# Altium footprint library Linear Technology PMIC-Switching Reg LTC1174-LTC3901.PcbLib: 163 footprints (part 11 of 11)
Each footprint in its own frame and in the unit in brackets; x right, y up, seen from the top. Pads: shape width x height; smd on the part's side, far side on the other; paste and mask are expansions set on the pad; w line width, h text height; cw(c..) or ccw(c..) is an arc to the next point about the centre after c.
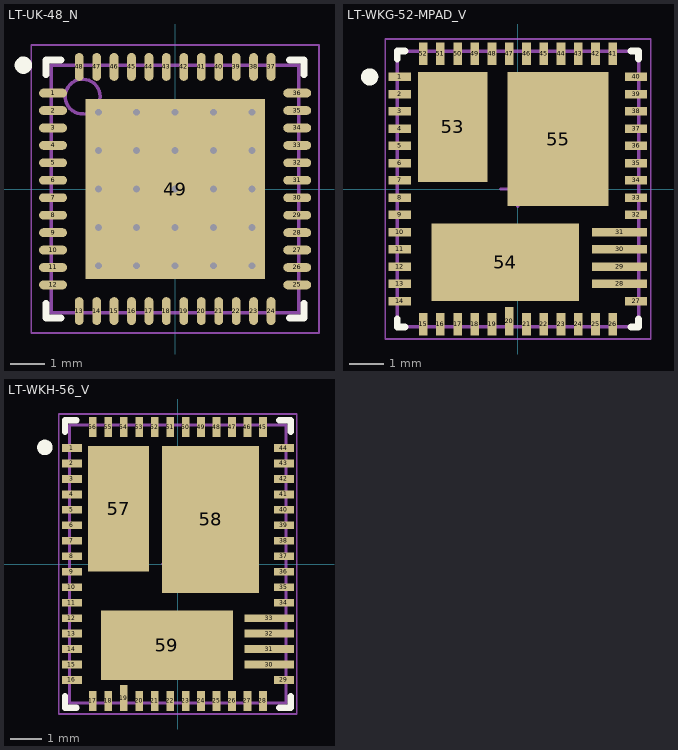
[diagram p10: the footprints below, top view; thin cyan lines are the x and y axes]

## LT-UK-48_N [mm] "QFN, 48-Leads, Body 7.1x7.1mm, Pitch 0.5mm, Thermal Pad 5.15x5.15mm, IPC Medium Density"
height 0.8
pads (49):
  oval 0.8x0.25 smd: 1(-3.5,2.75) 2(-3.5,2.25) 3(-3.5,1.75) 4(-3.5,1.25) 5(-3.5,0.75) 6(-3.5,0.25) 7(-3.5,-0.25) 8(-3.5,-0.75) 9(-3.5,-1.25) 10(-3.5,-1.75) 11(-3.5,-2.25) 12(-3.5,-2.75) 25(3.5,-2.75) 26(3.5,-2.25) 27(3.5,-1.75) 28(3.5,-1.25) 29(3.5,-0.75) 30(3.5,-0.25) 31(3.5,0.25) 32(3.5,0.75) 33(3.5,1.25) 34(3.5,1.75) 35(3.5,2.25) 36(3.5,2.75)
  oval 0.25x0.8 smd: 13(-2.75,-3.5) 14(-2.25,-3.5) 15(-1.75,-3.5) 16(-1.25,-3.5) 17(-0.75,-3.5) 18(-0.25,-3.5) 19(0.25,-3.5) 20(0.75,-3.5) 21(1.25,-3.5) 22(1.75,-3.5) 23(2.25,-3.5) 24(2.75,-3.5) 37(2.75,3.5) 38(2.25,3.5) 39(1.75,3.5) 40(1.25,3.5) 41(0.75,3.5) 42(0.25,3.5) 43(-0.25,3.5) 44(-0.75,3.5) 45(-1.25,3.5) 46(-1.75,3.5) 47(-2.25,3.5) 48(-2.75,3.5)
  rect 5.15x5.15 smd: 49(0,0)
via 2.2,-2.2 diameter 0.5 hole 0.2
via 1.1,-2.2 diameter 0.5 hole 0.2
via 0,-2.2 diameter 0.5 hole 0.2
via -1.1,-2.2 diameter 0.5 hole 0.2
via -2.2,-2.2 diameter 0.5 hole 0.2
via 2.2,-1.1 diameter 0.5 hole 0.2
via 1.1,-1.1 diameter 0.5 hole 0.2
via 0,-1.1 diameter 0.5 hole 0.2
via -1.1,-1.1 diameter 0.5 hole 0.2
via -2.2,-1.1 diameter 0.5 hole 0.2
via 2.2,0 diameter 0.5 hole 0.2
via 1.1,0 diameter 0.5 hole 0.2
via 0,0 diameter 0.5 hole 0.2
via -1.1,0 diameter 0.5 hole 0.2
via -2.2,0 diameter 0.5 hole 0.2
via 2.2,1.1 diameter 0.5 hole 0.2
via 1.1,1.1 diameter 0.5 hole 0.2
via 0,1.1 diameter 0.5 hole 0.2
via -1.1,1.1 diameter 0.5 hole 0.2
via -2.2,1.1 diameter 0.5 hole 0.2
via 2.2,2.2 diameter 0.5 hole 0.2
via 1.1,2.2 diameter 0.5 hole 0.2
via 0,2.2 diameter 0.5 hole 0.2
via -1.1,2.2 diameter 0.5 hole 0.2
via -2.2,2.2 diameter 0.5 hole 0.2
Top Overlay:
  circle w0.25: c-4.35,3.55 r0.125
  lines w0.2: -3.7,-3.275 -3.7,-3.7 -3.275,-3.7 ; -3.7,3.275 -3.7,3.7 -3.275,3.7 ; 3.275,-3.7 3.7,-3.7 3.7,-3.275 ; 3.275,3.7 3.7,3.7 3.7,3.275
Mechanical 13:
  circle w0.1: c-2.65,2.65 r0.5
  lines w0.1: -3.55,-3.55 3.55,-3.55 3.55,3.55 -3.55,3.55 -3.55,-3.55
Mechanical 15:
  lines w0.05: -4.125,-4.125 4.125,-4.125 4.125,4.125 -4.125,4.125 -4.125,-4.125
  lines w0.1: -0.5,0 0.5,0 ; 0,-0.5 0,0.5
3D body: height 0.8, standoff 0, extent -3.55,-3.55 3.55,3.55

## LT-WKG-52-MPAD_V [mm] "QFN, 52-Leads, Body 8x7mm, Pitch 0.5mm"
height 1
pads (55):
  rect 0.65x0.25 smd: 1(-3.425,3.25) 2(-3.425,2.75) 3(-3.425,2.25) 4(-3.425,1.75) 5(-3.425,1.25) 6(-3.425,0.75) 7(-3.425,0.25) 8(-3.425,-0.25) 9(-3.425,-0.75) 10(-3.425,-1.25) 11(-3.425,-1.75) 12(-3.425,-2.25) 13(-3.425,-2.75) 14(-3.425,-3.25) 27(3.425,-3.25) 32(3.425,-0.75) 33(3.425,-0.25) 34(3.425,0.25) 35(3.425,0.75) 36(3.425,1.25) 37(3.425,1.75) 38(3.425,2.25) 39(3.425,2.75) 40(3.425,3.25)
  rect 0.25x0.65 smd: 15(-2.75,-3.925) 16(-2.25,-3.925) 17(-1.75,-3.925) 18(-1.25,-3.925) 19(-0.75,-3.925) 21(0.25,-3.925) 22(0.75,-3.925) 23(1.25,-3.925) 24(1.75,-3.925) 25(2.25,-3.925) 26(2.75,-3.925) 41(2.75,3.925) 42(2.25,3.925) 43(1.75,3.925) 44(1.25,3.925) 45(0.75,3.925) 46(0.25,3.925) 47(-0.25,3.925) 48(-0.75,3.925) 49(-1.25,3.925) 50(-1.75,3.925) 51(-2.25,3.925) 52(-2.75,3.925)
  rect 0.25x0.83 smd: 20(-0.25,-3.835)
  rect 1.6x0.25 smd: 28(2.95,-2.75) 29(2.95,-2.25) 30(2.95,-1.75) 31(2.95,-1.25)
  rect 2.025x3.2 smd: 53(-1.887,1.8)
  rect 4.275x2.25 smd: 54(-0.363,-2.125)
  rect 2.925x3.9 smd: 55(1.163,1.45)
Top Overlay:
  circle w0.25: c-4.3,3.25 r0.125
  lines w0.2: -3.5,-3.775 -3.5,-4 -3.275,-4 ; -3.5,3.775 -3.5,4 -3.275,4 ; 3.275,-4 3.5,-4 3.5,-3.775 ; 3.275,4 3.5,4 3.5,3.775
Mechanical 13:
  lines w0.1: -3.5,-4 -3.5,4 3.5,4 3.5,-4 -3.5,-4
Mechanical 15:
  lines w0.05: -3.85,-4.35 -3.85,4.35 3.85,4.35 3.85,-4.35 -3.85,-4.35
  lines w0.1: -0.5,0 0.5,0 ; 0,-0.5 0,0.5
3D body: height 1, standoff 0, extent -3.5,-4 3.5,4

## LT-WKH-56_V [mm] "QFN, 56-Leads, Body 9x7mm, Pitch 0.5mm"
height 1
pads (59):
  rect 0.65x0.25 smd: 1(-3.425,3.75) 2(-3.425,3.25) 3(-3.425,2.75) 4(-3.425,2.25) 5(-3.425,1.75) 6(-3.425,1.25) 7(-3.425,0.75) 8(-3.425,0.25) 9(-3.425,-0.25) 10(-3.425,-0.75) 11(-3.425,-1.25) 12(-3.425,-1.75) 13(-3.425,-2.25) 14(-3.425,-2.75) 15(-3.425,-3.25) 16(-3.425,-3.75) 29(3.425,-3.75) 34(3.425,-1.25) 35(3.425,-0.75) 36(3.425,-0.25) 37(3.425,0.25) 38(3.425,0.75) 39(3.425,1.25) 40(3.425,1.75) 41(3.425,2.25) 42(3.425,2.75) 43(3.425,3.25) 44(3.425,3.75)
  rect 0.25x0.65 smd: 17(-2.75,-4.425) 18(-2.25,-4.425) 20(-1.25,-4.425) 21(-0.75,-4.425) 22(-0.25,-4.425) 23(0.25,-4.425) 24(0.75,-4.425) 25(1.25,-4.425) 26(1.75,-4.425) 27(2.25,-4.425) 28(2.75,-4.425) 45(2.75,4.425) 46(2.25,4.425) 47(1.75,4.425) 48(1.25,4.425) 49(0.75,4.425) 50(0.25,4.425) 51(-0.25,4.425) 52(-0.75,4.425) 53(-1.25,4.425) 54(-1.75,4.425) 55(-2.25,4.425) 56(-2.75,4.425)
  rect 0.25x0.83 smd: 19(-1.75,-4.335)
  rect 1.6x0.25 smd: 30(2.951,-3.25) 31(2.951,-2.75) 32(2.951,-2.25) 33(2.951,-1.75)
  rect 1.97x4.06 smd: 57(-1.915,1.79)
  rect 3.15x4.76 smd: 58(1.055,1.44)
  rect 4.27x2.25 smd: 59(-0.355,-2.625)
Top Overlay:
  circle w0.25: c-4.3,3.769 r0.125
  lines w0.2: -3.65,-4.275 -3.65,-4.65 -3.275,-4.65 ; -3.65,4.275 -3.65,4.65 -3.275,4.65 ; 3.275,-4.65 3.65,-4.65 3.65,-4.275 ; 3.275,4.65 3.65,4.65 3.65,4.275
Mechanical 13:
  lines w0.1: -3.5,-4.5 3.5,-4.5 3.5,4.5 -3.5,4.5 -3.5,-4.5
Mechanical 15:
  lines w0.05: -3.85,-4.85 3.85,-4.85 3.85,4.85 -3.85,4.85 -3.85,-4.85
  lines w0.1: -0.5,0 0.5,0 ; 0,-0.5 0,0.5
3D body: height 1, standoff 0, extent -3.5,-4.5 3.5,4.5